# EAGLE library part TPS76733_D_8 (library TexasInstruments)
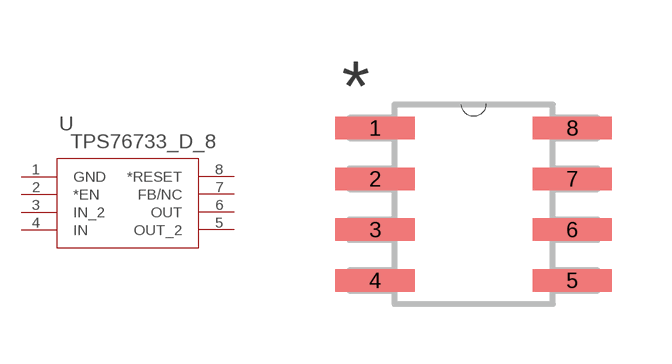
[diagram p4: symbol with the pads of D8; footprint D8]

Designator prefix U

## TPS76733_D_8 (DATASHEETURL: http://www.ti.com/lit/gpn/TPS76733; DESCRIPTION: Single Output LDO, 1.0A, Fixed(3.3V), Low Quiescent Current, Fast Transient Response; FAMILY_NAME: SINGLE CHANNEL LDO; GENERIC_PART_NUMBER: TPS76733; INDUSTRY_STD_PKG_TYPE: SOIC; MANUFACTURER: Texas Instruments; MANUFACTURER_PART_NUMBER: tps76733_d_8; PACKAGE_DESIGNATOR: D; PIN_COUNT: 8; VENDOR: Texas Instruments)  [D8]
1  GND  pwr
2  *EN  in
3  IN_2  in
4  IN  in
5  OUT_2  out
6  OUT  out
7  FB/NC  in
8  *RESET  out

## Footprint D8 (pad centres in mm)
smd 1.981 x 0.559: 1 -2.464,1.905; 2 -2.464,0.635; 3 -2.464,-0.635; 4 -2.464,-1.905; 5 2.464,-1.905; 6 2.464,-0.635; 7 2.464,0.635; 8 2.464,1.905